# Altium schematic symbol library BMS_SchLib.SchLib: 19 symbols
Pins are listed as number, name and electrical type; pins without a type are passive.

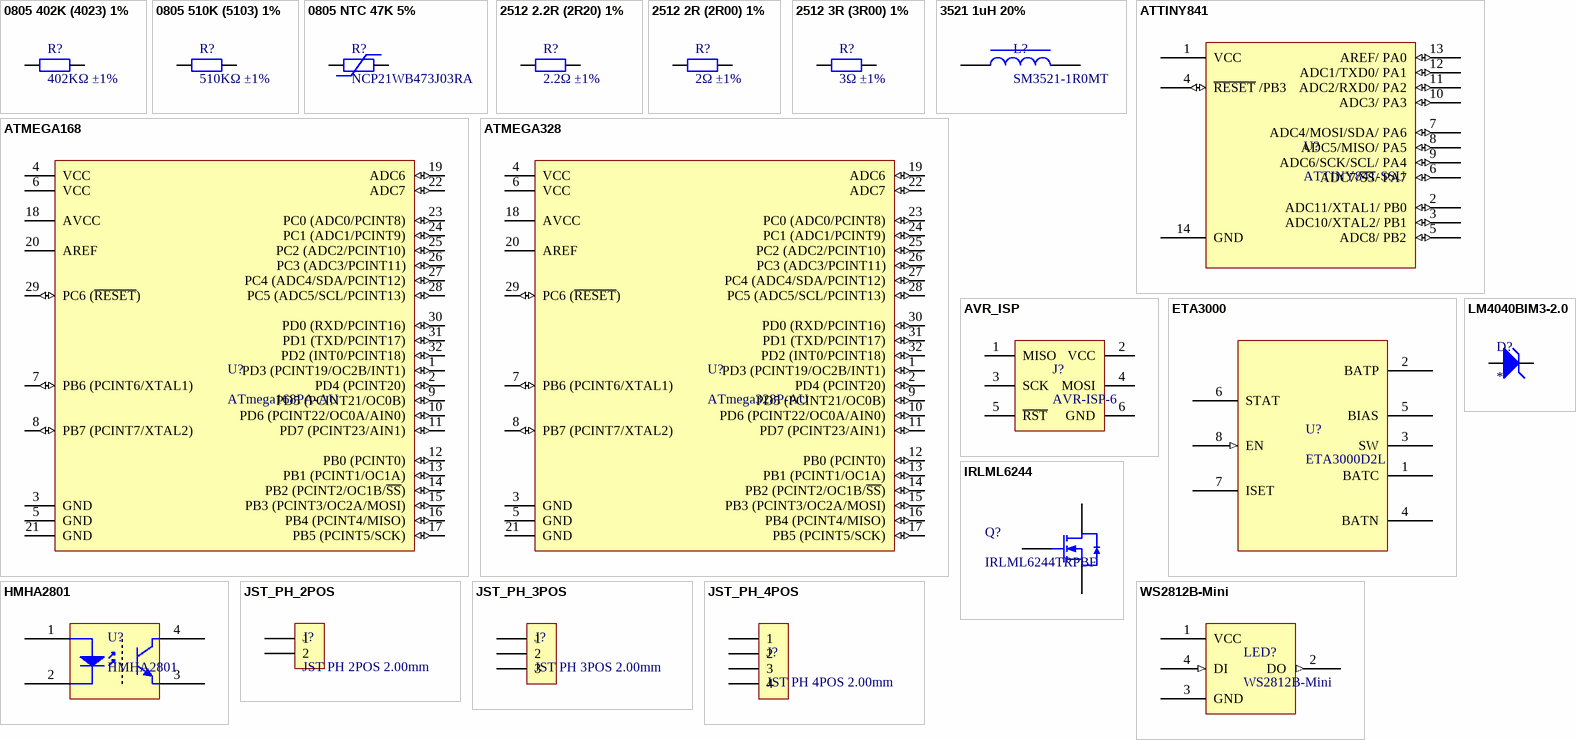
[diagram p0: symbols 0805 402K (4023) 1% to WS2812B-Mini]

## 0805 402K (4023) 1%
designator R?, comment 402KΩ ±1%
Chip resistor; Manufacturer: Uniroyal Elec; PartNumber: 0805W8F4023T5E; Power: 1/8W; Resistance: 402K; ComponentLink1Description: Supplier link; ComponentLink1URL: https://lcsc.com/product-detail/Chip-Resistor-Surface-Mount_Uniroyal-Elec-0805W8F4023T5E_C17680.html; Package: 0805; Supplier: LC; SuppliersPartNumber: C17680; Tolerance: 1%
footprint 0805_R
pins: 1, 2

## 0805 510K (5103) 1%
designator R?, comment 510KΩ ±1%
Chip resistor; Manufacturer: Uniroyal Elec; PartNumber: 0805W8F4023T5E; Power: 1/8W; Resistance: 510K; ComponentLink1Description: Supplier link; ComponentLink1URL: https://lcsc.com/product-detail/Chip-Resistor-Surface-Mount_Uniroyal-Elec-0805W8F5103T5E_C17733.html; Package: 0805; Supplier: LC; SuppliersPartNumber: C17733; Tolerance: 1%
footprint 0805_R
pins: 1, 2

## 0805 NTC 47K 5%
designator R?, comment NCP21WB473J03RA
NTC Resistor 47K 5%; Manufacturer: Murata Electronics; Power: 1/5W; B0/50: 4050K; B Tolerance: 3%; Package: 0805; PartNumber: NCP21WB473J03RA; Resistance @25°C: 47K; Tolerance: 5%; Supplier: LC; SuppliersPartNumber: C113141; Notepad: *; ComponentLink1Description: Supplier link; ComponentLink1URL: https://lcsc.com/product-detail/NTC-Thermistors_Murata-Electronics-NCP21WB473J03RA_C113141.html
footprint 0805_R
pins: 1, 2

## 2512 2.2R (2R20) 1%
designator R?, comment 2.2Ω ±1%
Chip resistor; Manufacturer: Uniroyal Elec; PartNumber: CR2512F2R20E04S; Power: 1W; ComponentLink1Description: Supplier link; ComponentLink1URL: https://lcsc.com/product-detail/Chip-Resistor-Surface-Mount_Uniroyal-Elec-25121WF200KT4E_C49298.html; Package: 2512; Supplier: LC; SuppliersPartNumber: C147074; Resistance: 2.2Ω; Tolerance: 1%
footprint 2512_R
pins: 1, 2

## 2512 2R (2R00) 1%
designator R?, comment 2Ω ±1%
Chip resistor; Manufacturer: Uniroyal Elec; PartNumber: 25121WF200KT4E; Power: 1W; ComponentLink1Description: Supplier link; ComponentLink1URL: https://lcsc.com/product-detail/Chip-Resistor-Surface-Mount_Uniroyal-Elec-25121WF200KT4E_C49298.html; Package: 2512; Supplier: LC; SuppliersPartNumber: C49298; Resistance: 2Ω; Tolerance: 1%
footprint 2512_R
pins: 1, 2

## 2512 3R (3R00) 1%
designator R?, comment 3Ω ±1%
Chip resistor; Manufacturer: Uniroyal Elec; PartNumber: 25121WF200KT4E; Power: 1W; ComponentLink1Description: Supplier link; ComponentLink1URL: https://lcsc.com/product-detail/Chip-Resistor-Surface-Mount_Uniroyal-Elec-25121WF200KT4E_C49298.html; Package: 2512; Supplier: LC; SuppliersPartNumber: C49298; Resistance: 3Ω; Tolerance: 1%
footprint 2512_R
pins: 1, 2

## 3521 1uH 20%
designator L?, comment SM3521-1R0MT
Power Inductor; Manufacturer: Shun Xiang Nuo Elec; Tolerance: 20%; Current: 2.2A; Inductance: 1uH; ComponentLink1Description: Supplier link; ComponentLink1URL: https://lcsc.com/product-detail/Power-Inductors_Shun-Xiang-Nuo-Elec-SM3521-1R0MT_C55366.html; Package: 3521; Supplier: LC; SuppliersPartNumber: C55366; PartNumber: SM3521-1R0MT
footprint 3521_L
pins: 1, 2

## ATMEGA168
designator U?, comment ATmega168PA-AU
ATmega AVR; Manufacturer: Microchip Tech; ComponentLink1Description: Supplier Link; ComponentLink1URL: https://lcsc.com/product-detail/ATMEL-AVR_ATMEL_ATMEGA168PA-AU_ATMEGA168PA-AU_C8728.html; ComponentLink2Description: Datasheet; ComponentLink2URL: https://datasheet.lcsc.com/szlcsc/1809061822_Microchip-Tech-ATMEGA168PA-AU_C8728.pdf; Package: TQFP-32_7x7x08P; PartNumber: ATMEGA168PA-AU; Supplier: LC; SuppliersPartNumber: C8728; Notepad: *
footprint TQFP-32_7x7x08P (TQFP, 32-Leads, Body 7,00x7,00mm, Pitch 0,80mm, IPC Medium Density)
pins: 1 PD3 (PCINT19/OC2B/INT1) (io), 2 PD4 (PCINT20) (io), 3 GND (power), 4 VCC, 5 GND (power), 6 VCC, 7 PB6 (PCINT6/XTAL1) (io), 8 PB7 (PCINT7/XTAL2) (io), 9 PD5 (PCINT21/OC0B) (io), 10 PD6 (PCINT22/OC0A/AIN0) (io), 11 PD7 (PCINT23/AIN1) (io), 12 PB0 (PCINT0) (io), 13 PB1 (PCINT1/OC1A) (io), 14 PB2 (PCINT2/OC1B/~{SS}) (io), 15 PB3 (PCINT3/OC2A/MOSI) (io), 16 PB4 (PCINT4/MISO) (io), 17 PB5 (PCINT5/SCK) (io), 18 AVCC, 19 ADC6 (io), 20 AREF, 21 GND (power), 22 ADC7 (io), 23 PC0 (ADC0/PCINT8) (io), 24 PC1 (ADC1/PCINT9) (io), 25 PC2 (ADC2/PCINT10) (io), 26 PC3 (ADC3/PCINT11) (io), 27 PC4 (ADC4/SDA/PCINT12) (io), 28 PC5 (ADC5/SCL/PCINT13) (io), 29 PC6 (~{RESET}) (io), 30 PD0 (RXD/PCINT16) (io), 31 PD1 (TXD/PCINT17) (io), 32 PD2 (INT0/PCINT18) (io)

## ATMEGA328
designator U?, comment ATmega328P-AU
ATmega AVR; Manufacturer: Microchip Tech; ComponentLink1Description: Supplier Link; ComponentLink1URL: https://lcsc.com/product-detail/ATMEL-AVR_Microchip-Tech-ATMEGA328P-AU_C14877.html; ComponentLink2Description: Datasheet; ComponentLink2URL: https://datasheet.lcsc.com/szlcsc/1809101618_Microchip-Tech-ATMEGA328P-AU_C14877.pdf; Package: TQFP-32_7x7x08P; PartNumber: ATMEGA328P-AU; Supplier: LC; SuppliersPartNumber: C14877; Notepad: *
footprint TQFP-32_7x7x08P (TQFP, 32-Leads, Body 7,00x7,00mm, Pitch 0,80mm, IPC Medium Density)
pins: 1 PD3 (PCINT19/OC2B/INT1) (io), 2 PD4 (PCINT20) (io), 3 GND (power), 4 VCC, 5 GND (power), 6 VCC, 7 PB6 (PCINT6/XTAL1) (io), 8 PB7 (PCINT7/XTAL2) (io), 9 PD5 (PCINT21/OC0B) (io), 10 PD6 (PCINT22/OC0A/AIN0) (io), 11 PD7 (PCINT23/AIN1) (io), 12 PB0 (PCINT0) (io), 13 PB1 (PCINT1/OC1A) (io), 14 PB2 (PCINT2/OC1B/~{SS}) (io), 15 PB3 (PCINT3/OC2A/MOSI) (io), 16 PB4 (PCINT4/MISO) (io), 17 PB5 (PCINT5/SCK) (io), 18 AVCC, 19 ADC6 (io), 20 AREF, 21 GND (power), 22 ADC7 (io), 23 PC0 (ADC0/PCINT8) (io), 24 PC1 (ADC1/PCINT9) (io), 25 PC2 (ADC2/PCINT10) (io), 26 PC3 (ADC3/PCINT11) (io), 27 PC4 (ADC4/SDA/PCINT12) (io), 28 PC5 (ADC5/SCL/PCINT13) (io), 29 PC6 (~{RESET}) (io), 30 PD0 (RXD/PCINT16) (io), 31 PD1 (TXD/PCINT17) (io), 32 PD2 (INT0/PCINT18) (io)

## ATTINY841
designator U?, comment ATTINY841-SSU
ATtiny AVR; Manufacturer: Microchip Tech; ComponentLink1Description: Datasheet; ComponentLink1URL: http://ww1.microchip.com/downloads/en/DeviceDoc/Atmel-8495-8-bit-AVR-Microcontrollers-ATtiny441-ATtiny841_Datasheet.pdf; Package: SOIC-14; PartNumber: ATTINY841-SSU; Supplier: LC; SuppliersPartNumber: C219103; ComponentLink2Description: Supplier link; ComponentLink2URL: https://lcsc.com/product-detail/ATMEL-AVR_Microchip-Tech-ATTINY841-SSU_C219103.html
footprint SOIC-14_150mil
pins: 1 VCC (power), 2 ADC11/XTAL1/ PB0 (io), 3 ADC10/XTAL2/ PB1 (io), 4 ~{RESET} /PB3 (io), 5 ADC8/ PB2 (io), 6 ADC7/~{SS}/ PA7 (io), 7 ADC4/MOSI/SDA/ PA6 (io), 8 ADC5/MISO/ PA5 (io), 9 ADC6/SCK/SCL/ PA4 (io), 10 ADC3/ PA3 (io), 11 ADC2/RXD0/ PA2 (io), 12 ADC1/TXD0/ PA1 (io), 13 AREF/ PA0 (io), 14 GND (power)

## AVR_ISP
designator J?, comment AVR-ISP-6
Manufacturer: Boom Precision Elec; PartNumber: C65114; Positions: 6; Row: 2; Supplier: LC; Type: Male; SuppliersPartNumber: C65114
footprint PINHEADER_6POS_2ROW_2.54
pins: 1 MISO, 2 VCC (power), 3 SCK, 4 MOSI, 5 ~{RST}, 6 GND (power)

## ETA3000
designator U?, comment ETA3000D2L
Inductive Cell Balancer IC; Manufacturer: ETA Solutions; ComponentLink1Description: Datasheet; ComponentLink1URL: https://www.google.com/url?sa=t&rct=j&q=&esrc=s&source=web&cd=1&cad=rja&uact=8&ved=2ahUKEwiT6tKR3dXlAhUi_CoKHWUtB6cQFjAAegQIARAC&url=http%3A%2F%2Fwww.etasolution.com%2Fupload%2F201905%2F09%2F201905091810050738.pdf&usg=AOvVaw3laEeLP183Kq2gxYTbdcOz; PartNumber: ETA3000D2L; Supplier: *; SuppliersPartNumber: *; Package: DFN2x2-8
footprint DFN2x2-8L
pins: 1 BATC (power), 2 BATP (power), 3 SW, 4 BATN (power), 5 BIAS, 6 STAT (oc), 7 ISET (power), 8 EN (in)

## HMHA2801
designator U?
Optocoupler; Manufacturer: ON Semicon; PartNumber: HMHA2801AR2; ComponentLink1Description: Supplier Link; ComponentLink1URL: https://lcsc.com/product-detail/Optocouplers_ON-Semicon_HMHA2801AR2_ON-Semicon-ON-HMHA2801AR2_C258257.html; Package: SOIC-4; Supplier: LC; SuppliersPartNumber: C258257
footprint HMHA2801
pins: 1, 2 A "Anode", 3   "Cathode", 4

## IRLML6244
designator Q?, comment IRLML6244TRPBF
MOSFET-N; Manufacturer: Infineon Technologies; ComponentLink1Description: Supplier Link; ComponentLink1URL: https://lcsc.com/product-detail/MOSFET_Infineon-Technologies-IRLML6244TRPBF_C143946.html; Package: SOT-23(SOT-23-3); Supplier: LC; SuppliersPartNumber: C143946; PartNumber: IRLML6244TRPBF
footprint SOT-23(SOT-23-3)
pins: 1 G, 2 S, 3 D

## JST_PH_2POS
designator J?, comment JST PH 2POS 2.00mm
JST-PH Conn; Manufacturer: JST Sales America; PartNumber: S2B-PH-K-S(LF)(SN); Positions: 2; Row: 1; ComponentLink1Description: Datasheet; ComponentLink1URL: https://datasheet.lcsc.com/szlcsc/JST-Sales-America-S2B-PH-K-S-LF-SN_C173752.pdf; Supplier: LC; Type: Male; Notepad: *; SuppliersPartNumber: C173752; ComponentLink2Description: Supplier link; ComponentLink2URL: https://lcsc.com/product-detail/Wire-To-Board-Wire-To-Wire-Connector_JST-Sales-America-S2B-PH-K-S-LF-SN_C173752.html
footprint JST_PH_S2B
pins: 1, 2

## JST_PH_3POS
designator J?, comment JST PH 3POS 2.00mm
JST-PH Conn; Manufacturer: JST Sales America; PartNumber: S3B-PH-K-S(LF)(SN); Positions: 3; Row: 1; ComponentLink1Description: Datasheet; ComponentLink1URL: https://datasheet.lcsc.com/szlcsc/1810261120_JST-Sales-America-S3B-PH-K-S-LF-SN_C157929.pdf; Supplier: LC; Type: Male; Notepad: *; SuppliersPartNumber: C157929; ComponentLink2Description: Supplier link; ComponentLink2URL: https://lcsc.com/product-detail/Wire-To-Board-Wire-To-Wire-Connector_JST-Sales-America_S3B-PH-K-S-LF-SN_JST-Sales-America-S3B-PH-K-S-LF-SN_C157929.html
footprint JST_PH_S3B
pins: 1, 2, 3

## JST_PH_4POS
designator J?, comment JST PH 4POS 2.00mm
JST-PH Conn; Manufacturer: JST Sales America; PartNumber: S4B-PH-K-S(LF)(SN); Positions: 3; Row: 1; ComponentLink1Description: Datasheet; ComponentLink1URL: https://datasheet.lcsc.com/szlcsc/1810261107_JST-Sales-America-S4B-PH-K-S-LF-SN_C157926.pdf; Supplier: LC; Type: Male; Notepad: *; SuppliersPartNumber: C157926; ComponentLink2Description: Supplier link; ComponentLink2URL: https://lcsc.com/product-detail/Wire-To-Board-Wire-To-Wire-Connector_JST-Sales-America-S4B-PH-K-S-LF-SN_C157926.html
footprint JST_PH_S4B
pins: 1, 2, 3, 4

## LM4040BIM3-2.0
designator D?
Precision Shunt Voltage Reference; Manufacturer: Texas Instruments; PartNumber: LM4040BIM3-2.0; Voltage: 2.048V; Current: 15mA; Supplier: LC; SuppliersPartNumber: ND; Package: SOT-23(SOT-23-3); ComponentLink1Description: Datasheet; ComponentLink1URL: http://www.ti.com/lit/ds/symlink/lm4040-n.pdf
footprint SOT-23(SOT-23-3)
pins: 1 K, 2 A

## WS2812B-Mini
designator LED?
RGB Addressable LED; Manufacturer: Worldsemi; Package: 3535; ComponentLink1Description: Supplier link; ComponentLink1URL: https://lcsc.com/product-detail/Light-Emitting-Diodes-LED_Worldsemi-WS2812B-Mini_C114583.html; PartNumber: WS2812B-Mini; SuppliersPartNumber: C114583; Supplier: LC; Notepad: *
footprint LED3535_4P
pins: 1 VCC (power), 2 DO (out), 3 GND (power), 4 DI (in)